# Altium schematic symbol library 1591XXGSFLBK.SchLib: 1 symbol
Pins are listed as number, name and electrical type; pins without a type are passive.

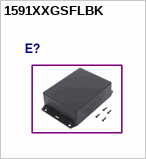
[diagram p0: symbol 1591XXGSFLBK]

## 1591XXGSFLBK
designator E?  (value not drawn)